# Altium footprint library THAIEASYFOOTPRINT_090120_AD2006.PcbLib: 57 footprints (part 3 of 4)
Each footprint in its own frame and in the unit in brackets; x right, y up, seen from the top. Pads: shape width x height; smd on the part's side, far side on the other; paste and mask are expansions set on the pad; w line width, h text height; cw(c..) or ccw(c..) is an arc to the next point about the centre after c.
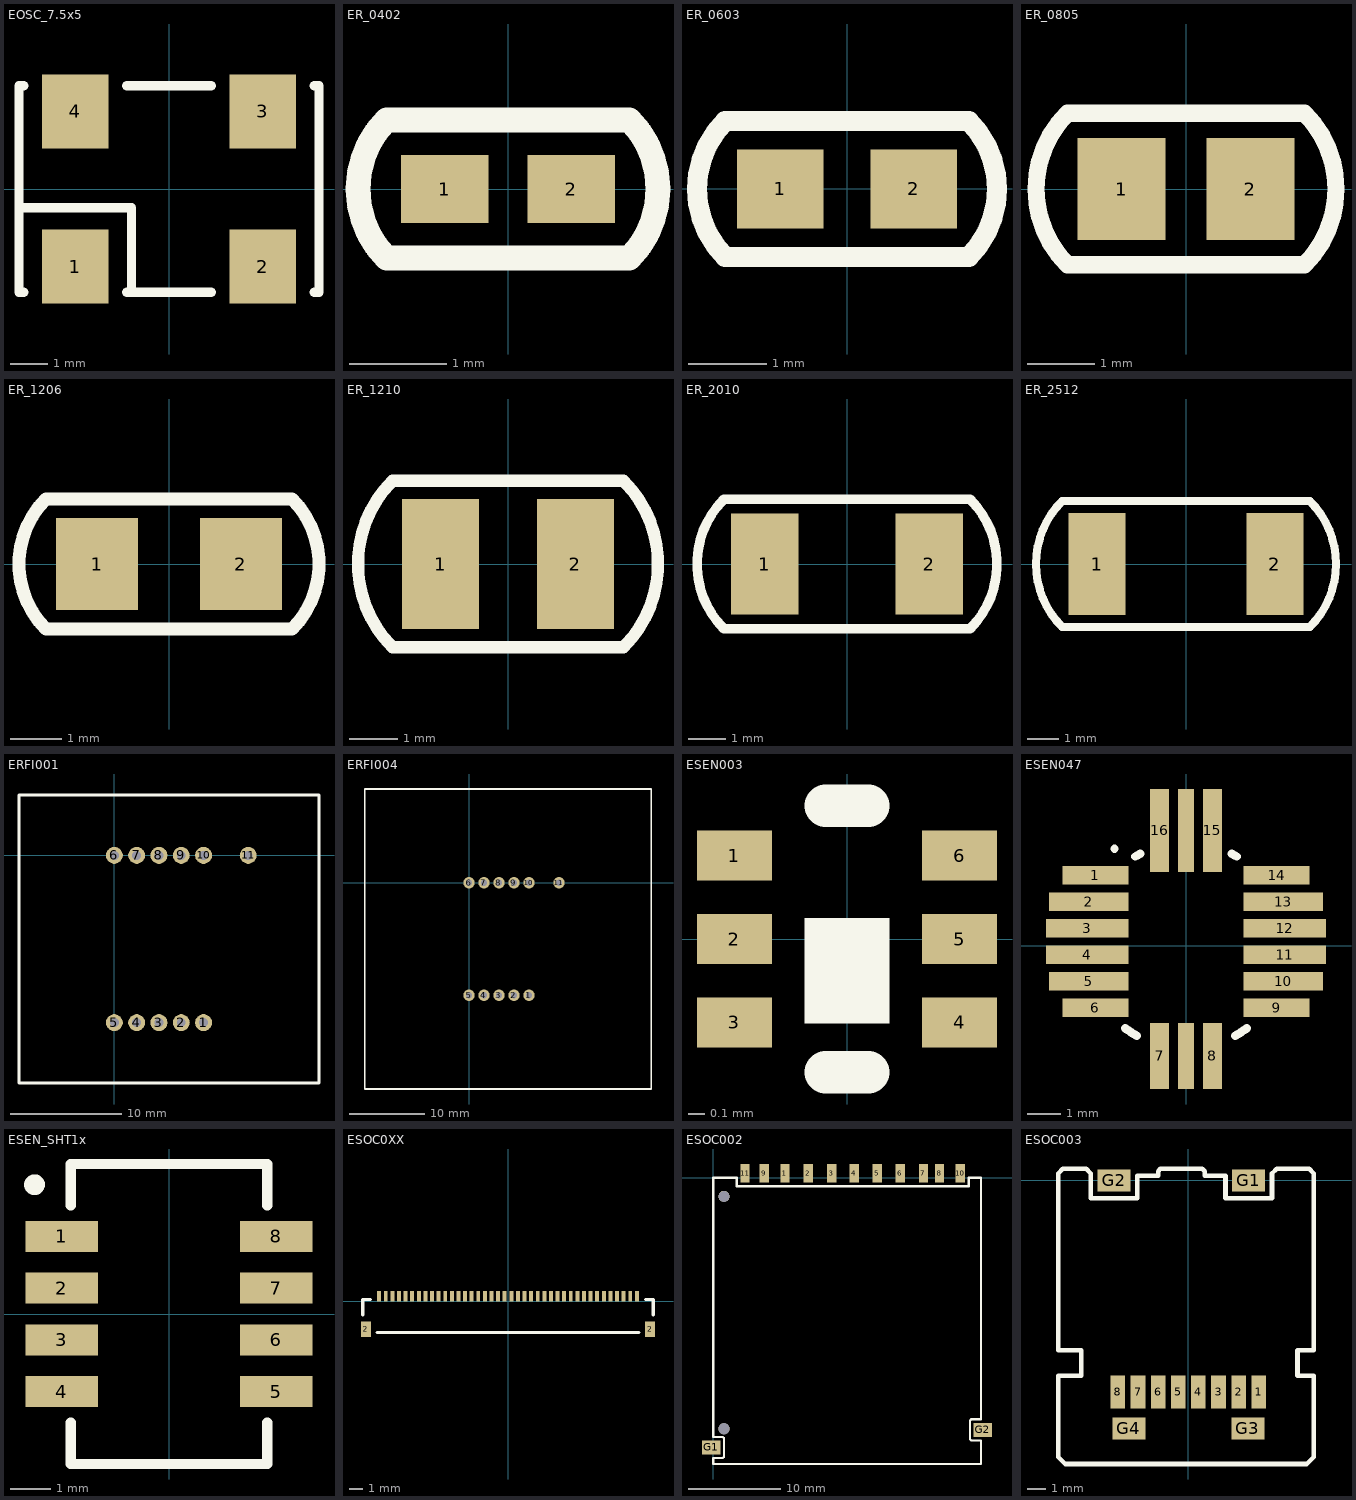
[diagram p2: the footprints below, top view; thin cyan lines are the x and y axes]

## EOSC_7.5x5 [mm]
pads (4):
  rect 1.8x2 smd: 1(-2.54,-2.1) 2(2.54,-2.1) 3(2.54,2.1) 4(-2.54,2.1)
Top Overlay:
  lines w0.254: -4.064,-0.508 -1.016,-0.508 -1.016,-2.794 ; -3.937,-2.794 -4.064,-2.794 -4.064,2.794 -3.937,2.794 ; -1.143,-2.794 1.143,-2.794 ; -1.143,2.794 1.143,2.794 ; 3.937,-2.794 4.064,-2.794 4.064,2.794 3.937,2.794

## ER_0402 [mm] "Chip Resistor; Body 1.1 x 0.5 mm (LxW typ)"
height 0.4
pads (2):
  rect 0.9x0.7 smd: 1(-0.65,0) 2(0.65,0)
Top Overlay:
  lines w0.254: -1.25,-0.711 cw(c-0.539,0) -1.25,0.711 1.25,0.711 cw(c0.539,0) 1.25,-0.711 -1.25,-0.711

## ER_0603 [mm] "Chip Resistor; Body 1.6 x 0.8 mm (LxW typ)"
height 0.6
pads (2):
  rect 1.1x1 smd: 1(-0.85,0) 2(0.85,0)
Top Overlay:
  lines w0.254: -1.55,-0.864 cw(c-0.686,0) -1.55,0.864 1.55,0.864 cw(c0.686,0) 1.55,-0.864 -1.55,-0.864

## ER_0805 [mm] "Chip Resistor; Body 2.0 x 1.3 mm (LxW typ)"
height 0.65
pads (2):
  rect 1.3x1.5 smd: 1(-0.95,0) 2(0.95,0)
Top Overlay:
  lines w0.254: -1.75,-1.118 cw(c-0.632,0) -1.75,1.118 1.75,1.118 cw(c0.632,0) 1.75,-1.118 -1.75,-1.118

## ER_1206 [mm] "Chip Resistor; Body 3.2 x 1.6 mm (LxW typ)"
height 0.71
pads (2):
  rect 1.6x1.8 smd: 1(-1.4,0) 2(1.4,0)
Top Overlay:
  lines w0.254: -2.4,-1.27 cw(c-1.13,0) -2.4,1.27 2.4,1.27 cw(c1.13,0) 2.4,-1.27 -2.4,-1.27

## ER_1210 [mm] "Chip Resistor; Body 3.2 x 2.5 mm (LxW typ)"
height 0.71
pads (2):
  rect 1.6x2.7 smd: 1(-1.4,0) 2(1.4,0)
Top Overlay:
  lines w0.254: -2.4,-1.727 cw(c-0.673,0) -2.4,1.727 2.4,1.727 cw(c0.673,0) 2.4,-1.727 -2.4,-1.727

## ER_2010 [mm] "Chip Resistor; Body 5.0 x 2.5 mm (LxW typ)"
height 0.71
pads (2):
  rect 1.8x2.7 smd: 1(-2.2,0) 2(2.2,0)
Top Overlay:
  lines w0.254: -3.3,-1.727 cw(c-1.573,0) -3.3,1.727 3.3,1.727 cw(c1.573,0) 3.3,-1.727 -3.3,-1.727

## ER_2512 [mm] "Chip Resistor; Body 6.3 x 3.2 mm (LxW typ)"
height 0.71
pads (2):
  rect 1.8x3.2 smd: 1(-2.8,0) 2(2.8,0)
Top Overlay:
  lines w0.254: -3.9,-1.981 cw(c-1.919,0) -3.9,1.981 3.9,1.981 cw(c1.919,0) 3.9,-1.981 -3.9,-1.981

## ERFI001 [mm] "ID-12 -- 12-CM-RANGE RFID MODULE W/INTERNAL ANTENNA"
height 6.6
pads (11):
  round 1.524 hole 0.8: 1(8,-15) 2(6,-15) 3(4,-15) 4(2,-15) 5(0,-15) 6(0,0) 7(2,0) 8(4,0) 9(6,0) 10(8,0) 11(12,0)
Top Overlay:
  lines w0.254: -8.55,-20.4 18.35,-20.4 18.35,5.4 -8.55,5.4 -8.55,-20.4

## ERFI004 [mm] "ID-20 -- 20-CM-RANGE RFID MODULE W/INTERNAL ANTENNA"
height 7
pads (11):
  round 1.524 hole 0.8: 1(8,-15) 2(6,-15) 3(4,-15) 4(2,-15) 5(0,-15) 6(0,0) 7(2,0) 8(4,0) 9(6,0) 10(8,0) 11(12,0)
Top Overlay:
  lines w0.254: -13.9,-27.5 -13.9,12.5 24.3,12.5 24.3,-27.5 -13.9,-27.5

## ESEN003 [mm] "TPS852 -- Photo IC"
height 0.55
pads (6):
  rect 0.45x0.3 smd: 1(-0.675,0.5) 2(-0.675,0) 3(-0.675,-0.5) 4(0.675,-0.5) 5(0.675,0) 6(0.675,0.5)
Top Overlay:
  rectangle: -0.254,-0.508 0.254,0.127
  lines w0.254: -0.127,-0.8 0.127,-0.8 ; -0.127,0.8 0.127,0.8

## ESEN047 [mm] "SCP1000 -- Absolute pressure sensor"
height 1.7
pads (18):
  rect 2x0.55 smd: 1(-2.735,2.125) 6(-2.735,-1.875) 9(2.735,-1.875) 14(2.735,2.125)
  rect 2.4x0.55 smd: 2(-2.935,1.325) 5(-2.935,-1.075) 10(2.935,-1.075) 13(2.935,1.325)
  rect 2.5x0.55 smd: 3(-2.985,0.525) 4(-2.985,-0.275) 11(2.985,-0.275) 12(2.985,0.525)
  rect 0.57x2 smd: 7(-0.8,-3.33) 8(0.8,-3.33)
  rect 0.57x2.5 smd: 15(0.8,3.48) 16(-0.8,3.48)
  rect 0.47x2 smd: ""(0,-3.33)
  rect 0.47x2.5 smd: ""(0,3.48)
Top Overlay:
  circle w0.254: c-2.159,2.921 r0
  lines w0.254: -1.839,-2.496 ccw(c0,0) -1.484,-2.721 ; -1.538,2.692 cw(c0,0) -1.386,2.773 ; 1.386,2.773 cw(c0,0) 1.538,2.692 ; 1.484,-2.721 ccw(c0,0) 1.839,-2.496

## ESEN_SHT1x [mil]
pads (8):
  rect 70x30 smd: 1(-103.5,75) 2(-103.5,25) 3(-103.5,-25) 4(-103.5,-75) 5(103.5,-75) 6(103.5,-25) 7(103.5,25) 8(103.5,75)
Top Overlay:
  circle w10: c-130,125 r5
  lines w10: -95,-105 -95,-145 95,-145 95,-105 ; -95,105 -95,145 95,145 95,105

## ESOC0XX [mm] "FH19SC-40S-0.5SH -- CON FOR ELT800480TP"
pads (42):
  rect 0.297x0.8 smd: 1(9.75,0.4) 2(9.25,0.4) 3(8.75,0.4) 4(8.25,0.4) 5(7.75,0.4) 6(7.25,0.4) 7(6.75,0.4) 8(6.25,0.4) 9(5.75,0.4) 10(5.25,0.4) 11(4.75,0.4) 12(4.25,0.4) 13(3.75,0.4) 14(3.25,0.4) 15(2.75,0.4) 16(2.25,0.4) 17(1.75,0.4) 18(1.25,0.4) 19(0.75,0.4) 20(0.25,0.4) 21(-0.25,0.4) 22(-0.75,0.4) 23(-1.25,0.4) 24(-1.75,0.4) 25(-2.25,0.4) 26(-2.75,0.4) 27(-3.25,0.4) 28(-3.75,0.4) 29(-4.25,0.4) 30(-4.75,0.4) 31(-5.25,0.4) 32(-5.75,0.4) 33(-6.25,0.4) 34(-6.75,0.4) 35(-7.25,0.4) 36(-7.75,0.4) 37(-8.25,0.4) 38(-8.75,0.4) 39(-9.25,0.4) 40(-9.75,0.4)
  rect 0.75x1.2 smd: 2(-10.75,-2.1) 2(10.75,-2.1)
Top Overlay:
  lines w0.254: -11,-1.016 -11,0.15 -10.414,0.15 ; -9.906,-2.35 0,-2.35 9.906,-2.35 ; 10.414,0.15 11,0.15 11,-1.016

## ESOC002 [mm] "SCDA2A0201 -- CONN SD/MMC REV ALPS"
height 4.4
pads (15):
  rect 1x2 smd: 1(7.747,0.508) 2(10.287,0.508) 3(12.827,0.508) 4(15.254,0.508) 5(17.754,0.508) 6(20.254,0.508) 7(22.754,0.508) 8(24.511,0.508) 9(5.5,0.508) 10(26.754,0.508) 11(3.429,0.508)
  rect 2x1.5 smd: G1(-0.254,-29.21) G2(29.21,-27.305)
  round 1.2 hole 1.2: ""(1.143,-27.178) ""(1.143,-2)
Top Overlay:
  lines w0.254: 0,-31 0,-30.353 1.016,-30.353 1.143,-30.226 1.143,-28.194 1.016,-28.067 0,-28.067 0,0 2.54,0 2.54,-0.889 27.686,-0.889 27.686,0 29,0 29,-26.162 27.94,-26.162 27.813,-26.289 27.813,-28.321 27.94,-28.448 29,-28.448 29,-31 0,-31

## ESOC003 [mm] "ST1W008S4AR1500 -- CONN MICRO SD JAE"
height 2
pads (12):
  rect 0.8x1.8 smd: 1(3.85,-11.55) 2(2.75,-11.55) 3(1.65,-11.55) 4(0.55,-11.55) 5(-0.55,-11.55) 6(-1.65,-11.55) 7(-2.75,-11.55) 8(-3.85,-11.55)
  rect 1.8x1.2 smd: G1(3.3,0) G2(-4.05,0) G3(3.25,-13.55) G4(-3.25,-13.55)
Top Overlay:
  lines w0.254: -7.112,-15.113 -6.731,-15.494 -2.032,-15.494 2.032,-15.494 6.477,-15.494 6.858,-15.113 6.858,-10.922 6.858,-10.668 5.969,-10.668 5.969,-9.271 6.858,-9.271 6.858,0.381 6.604,0.635 4.826,0.635 4.572,0.381 4.572,-0.508 4.572,-0.965 2.032,-0.965 2.032,0 2.032,0.254 0.889,0.254 0.889,0.508 0.762,0.635 -1.524,0.635 -1.651,0.508 -1.651,0.254 -2.794,0.254 -2.794,0 -2.794,-0.965 -5.334,-0.965 -5.334,-0.508 -5.334,0.381 -5.588,0.635 -6.858,0.635 -7.112,0.381 -7.112,-0.635 -7.112,-9.271 -5.842,-9.271 -5.842,-10.668 -7.112,-10.668 -7.112,-10.922 -7.112,-15.113